# Altium integrated library Linear Technology Power Management Switching Regulator LT1074-LT8705.IntLib: 2252 symbols (part 144 of 148)
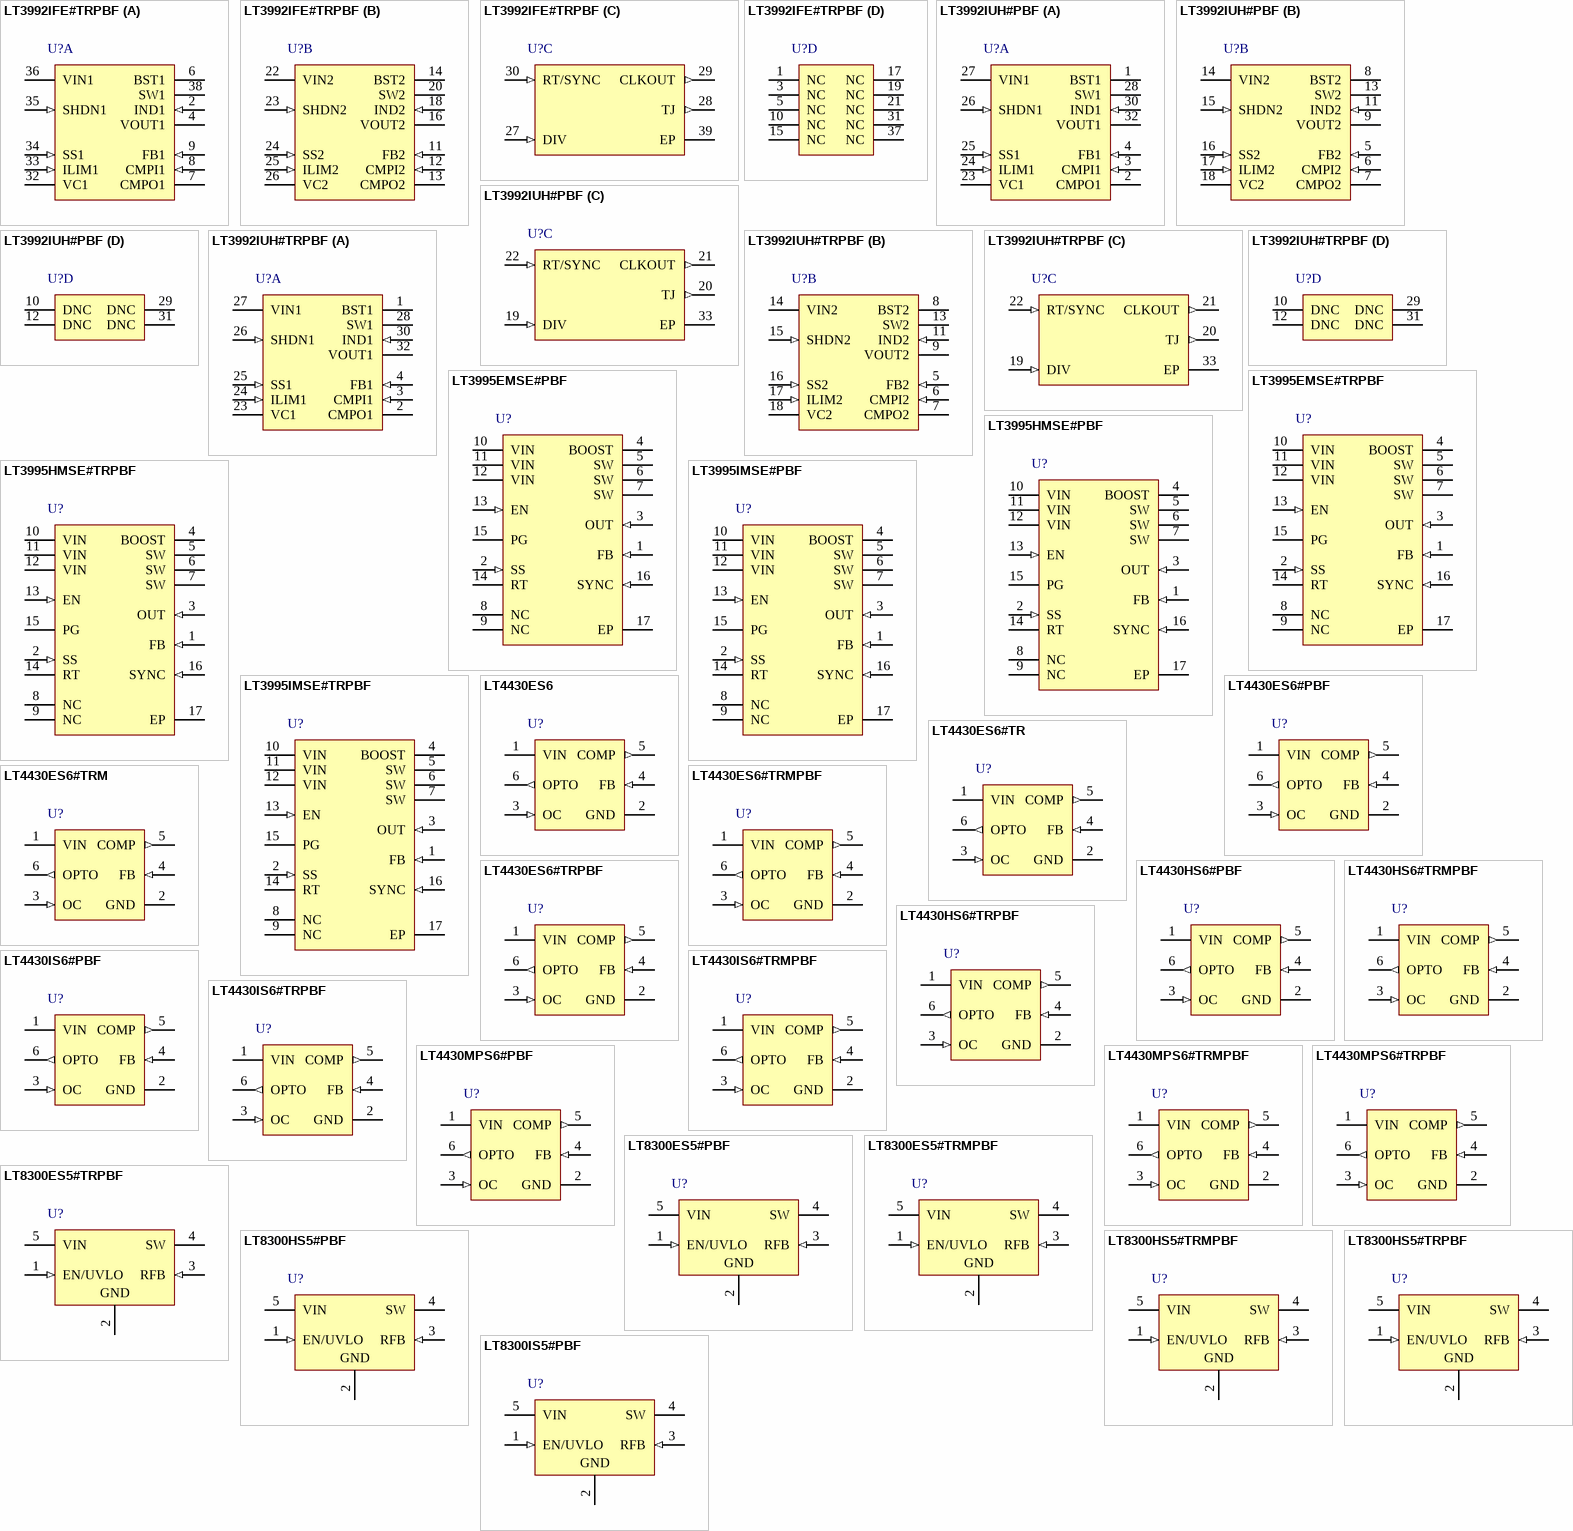
[diagram p214: symbols LT3992IFE#TRPBF to LT8300IS5#PBF]

## LT4430HS6#PBF
designator U?
Secondary-Side Optocoupler Driver, 6-pin SOT23 (S6-6), -40 to 150 degC, Pb-Free; Manufacturer: Linear Technology; PartNumber: LT4430HS6#PBF; Number of Outputs: 1; DatasheetVersion: Rev. B; PackageVersion: Jun-10; PackageReference: S6-6; PackageDescription: 6-Pin Plastic TSOT-23, Body 2.9 x 1.63 mm, Pitch 0.95 mm; RoHS: TRUE; Mounting Technology: Surface Mount; Code_JEDEC: MO-193; ComponentLink1Description: Manufacturer URL; ComponentLink1URL: http://www.linear.com/; ComponentLink2Description: Datasheet; ComponentLink2URL: http://cds.linear.com/docs/en/datasheet/4430fb.pdf; ComponentLink3Description: Package Specification; ComponentLink3URL: http://cds.linear.com/docs/en/packaging/SOT_6_05-08-1636.pdf
footprint LT-S6-6-TSOT-23_N (SOT23, 6-Leads, Body 2.9x1.75mm, Pitch 0.95mm, IPC Medium Density)
footprint LT-S6-6-TSOT-23_L (SOT23, 6-Leads, Body 2.9x1.75mm, Pitch 0.95mm, IPC High Density)
footprint LT-S6-6-TSOT-23_M (SOT23, 6-Leads, Body 2.9x1.75mm, Pitch 0.95mm, IPC Low Density)
pins: 1 VIN (power) "This is the input supply that powers all internal circuitry. The input supply range is 3V minimum to 20V maximum and the typical input quiescent current is 1.9mA. Connect a 1uF bypass capacitor directly from VIN to GND.", 2 GND (power) "Analog Ground Pin. It is also the negative sense terminal for the internal 0.6V reference. Connect the external feedback divider network that terminates to ground directly to this pin for best regulation and performance.", 3 OC (in) "Overshoot Control Pin. A typical 8.5uA current source and a capacitor placed from this pin to GND controls output voltage overshoot on start-up and recovery from short-circuit. The typical ramp time is (COC ?.6V)/8.5uA(See Datasheet)", 4 FB (in) "This is the inverting input of the error amplifier. The noninverting input is tied to the internal 0.6V reference. Input bias current for this pin is typically 75nA flowing out of the pin. This pin normally ties to a (See Datasheet)", 5 COMP (out) "This is the output of the error amplifier. The error amplifier is a true voltage-mode error amplifier and frequency compensation is performed around the amplifier. Typical LT4430 compensation schemes use series R-C in (See Datasheet)", 6 OPTO (out) "This is the output of the amplifier that drives the opto-coupler. The opto driver amplifier uses an inverting gain of six configuration to drive the opto-coupler referenced to ground. Driving the opto-coupler referenced to (See Datasheet)"

## LT4430HS6#TRMPBF
designator U?
Secondary-Side Optocoupler Driver, 6-pin SOT23 (S6-6), -40 to 150 degC, Pb-Free, Mini Tape and Reel; Manufacturer: Linear Technology; PartNumber: LT4430HS6#TRMPBF; Number of Outputs: 1; DatasheetVersion: Rev. B; PackageVersion: Jun-10; PackageReference: S6-6; PackageDescription: 6-Pin Plastic TSOT-23, Body 2.9 x 1.63 mm, Pitch 0.95 mm; Supplier 1: Digi-Key; Supplier Part Number 1: LT4430HS6#TRMPBF-ND; Packing: Mini Tape and Reel; RoHS: TRUE; Mounting Technology: Surface Mount; Code_JEDEC: MO-193; ComponentLink1Description: Manufacturer URL; ComponentLink1URL: http://www.linear.com/; ComponentLink2Description: Datasheet; ComponentLink2URL: http://cds.linear.com/docs/en/datasheet/4430fb.pdf; ComponentLink3Description: Package Specification; ComponentLink3URL: http://cds.linear.com/docs/en/packaging/SOT_6_05-08-1636.pdf
footprint LT-S6-6-TSOT-23_N (SOT23, 6-Leads, Body 2.9x1.75mm, Pitch 0.95mm, IPC Medium Density)
footprint LT-S6-6-TSOT-23_L (SOT23, 6-Leads, Body 2.9x1.75mm, Pitch 0.95mm, IPC High Density)
footprint LT-S6-6-TSOT-23_M (SOT23, 6-Leads, Body 2.9x1.75mm, Pitch 0.95mm, IPC Low Density)
pins: 1 VIN (power) "This is the input supply that powers all internal circuitry. The input supply range is 3V minimum to 20V maximum and the typical input quiescent current is 1.9mA. Connect a 1uF bypass capacitor directly from VIN to GND.", 2 GND (power) "Analog Ground Pin. It is also the negative sense terminal for the internal 0.6V reference. Connect the external feedback divider network that terminates to ground directly to this pin for best regulation and performance.", 3 OC (in) "Overshoot Control Pin. A typical 8.5uA current source and a capacitor placed from this pin to GND controls output voltage overshoot on start-up and recovery from short-circuit. The typical ramp time is (COC ?.6V)/8.5uA(See Datasheet)", 4 FB (in) "This is the inverting input of the error amplifier. The noninverting input is tied to the internal 0.6V reference. Input bias current for this pin is typically 75nA flowing out of the pin. This pin normally ties to a (See Datasheet)", 5 COMP (out) "This is the output of the error amplifier. The error amplifier is a true voltage-mode error amplifier and frequency compensation is performed around the amplifier. Typical LT4430 compensation schemes use series R-C in (See Datasheet)", 6 OPTO (out) "This is the output of the amplifier that drives the opto-coupler. The opto driver amplifier uses an inverting gain of six configuration to drive the opto-coupler referenced to ground. Driving the opto-coupler referenced to (See Datasheet)"

## LT4430HS6#TRPBF
designator U?
Secondary-Side Optocoupler Driver, 6-pin SOT23 (S6-6), -40 to 150 degC, Pb-Free, Tape and Reel; Manufacturer: Linear Technology; PartNumber: LT4430HS6#TRPBF; Number of Outputs: 1; DatasheetVersion: Rev. B; PackageVersion: Jun-10; PackageReference: S6-6; PackageDescription: 6-Pin Plastic TSOT-23, Body 2.9 x 1.63 mm, Pitch 0.95 mm; Supplier 1: Digi-Key; Supplier Part Number 1: LT4430HS6#TRPBF-ND; Packing: Tape and Reel; RoHS: TRUE; Mounting Technology: Surface Mount; Code_JEDEC: MO-193; ComponentLink1Description: Manufacturer URL; ComponentLink1URL: http://www.linear.com/; ComponentLink2Description: Datasheet; ComponentLink2URL: http://cds.linear.com/docs/en/datasheet/4430fb.pdf; ComponentLink3Description: Package Specification; ComponentLink3URL: http://cds.linear.com/docs/en/packaging/SOT_6_05-08-1636.pdf
footprint LT-S6-6-TSOT-23_N (SOT23, 6-Leads, Body 2.9x1.75mm, Pitch 0.95mm, IPC Medium Density)
footprint LT-S6-6-TSOT-23_L (SOT23, 6-Leads, Body 2.9x1.75mm, Pitch 0.95mm, IPC High Density)
footprint LT-S6-6-TSOT-23_M (SOT23, 6-Leads, Body 2.9x1.75mm, Pitch 0.95mm, IPC Low Density)
pins: 1 VIN (power) "This is the input supply that powers all internal circuitry. The input supply range is 3V minimum to 20V maximum and the typical input quiescent current is 1.9mA. Connect a 1uF bypass capacitor directly from VIN to GND.", 2 GND (power) "Analog Ground Pin. It is also the negative sense terminal for the internal 0.6V reference. Connect the external feedback divider network that terminates to ground directly to this pin for best regulation and performance.", 3 OC (in) "Overshoot Control Pin. A typical 8.5uA current source and a capacitor placed from this pin to GND controls output voltage overshoot on start-up and recovery from short-circuit. The typical ramp time is (COC ?.6V)/8.5uA(See Datasheet)", 4 FB (in) "This is the inverting input of the error amplifier. The noninverting input is tied to the internal 0.6V reference. Input bias current for this pin is typically 75nA flowing out of the pin. This pin normally ties to a (See Datasheet)", 5 COMP (out) "This is the output of the error amplifier. The error amplifier is a true voltage-mode error amplifier and frequency compensation is performed around the amplifier. Typical LT4430 compensation schemes use series R-C in (See Datasheet)", 6 OPTO (out) "This is the output of the amplifier that drives the opto-coupler. The opto driver amplifier uses an inverting gain of six configuration to drive the opto-coupler referenced to ground. Driving the opto-coupler referenced to (See Datasheet)"

## LT4430IS6#PBF
designator U?
Secondary-Side Optocoupler Driver, 6-pin SOT23 (S6-6), -40 to 125 degC, Pb-Free; Manufacturer: Linear Technology; PartNumber: LT4430IS6#PBF; Number of Outputs: 1; DatasheetVersion: Rev. B; PackageVersion: Jun-10; PackageReference: S6-6; PackageDescription: 6-Pin Plastic TSOT-23, Body 2.9 x 1.63 mm, Pitch 0.95 mm; Supplier 1: Newark; Supplier Part Number 1: 78T4112; RoHS: TRUE; Mounting Technology: Surface Mount; Code_JEDEC: MO-193; ComponentLink1Description: Manufacturer URL; ComponentLink1URL: http://www.linear.com/; ComponentLink2Description: Datasheet; ComponentLink2URL: http://cds.linear.com/docs/en/datasheet/4430fb.pdf; ComponentLink3Description: Package Specification; ComponentLink3URL: http://cds.linear.com/docs/en/packaging/SOT_6_05-08-1636.pdf
footprint LT-S6-6-TSOT-23_N (SOT23, 6-Leads, Body 2.9x1.75mm, Pitch 0.95mm, IPC Medium Density)
footprint LT-S6-6-TSOT-23_L (SOT23, 6-Leads, Body 2.9x1.75mm, Pitch 0.95mm, IPC High Density)
footprint LT-S6-6-TSOT-23_M (SOT23, 6-Leads, Body 2.9x1.75mm, Pitch 0.95mm, IPC Low Density)
pins: 1 VIN (power) "This is the input supply that powers all internal circuitry. The input supply range is 3V minimum to 20V maximum and the typical input quiescent current is 1.9mA. Connect a 1uF bypass capacitor directly from VIN to GND.", 2 GND (power) "Analog Ground Pin. It is also the negative sense terminal for the internal 0.6V reference. Connect the external feedback divider network that terminates to ground directly to this pin for best regulation and performance.", 3 OC (in) "Overshoot Control Pin. A typical 8.5uA current source and a capacitor placed from this pin to GND controls output voltage overshoot on start-up and recovery from short-circuit. The typical ramp time is (COC ?.6V)/8.5uA(See Datasheet)", 4 FB (in) "This is the inverting input of the error amplifier. The noninverting input is tied to the internal 0.6V reference. Input bias current for this pin is typically 75nA flowing out of the pin. This pin normally ties to a (See Datasheet)", 5 COMP (out) "This is the output of the error amplifier. The error amplifier is a true voltage-mode error amplifier and frequency compensation is performed around the amplifier. Typical LT4430 compensation schemes use series R-C in (See Datasheet)", 6 OPTO (out) "This is the output of the amplifier that drives the opto-coupler. The opto driver amplifier uses an inverting gain of six configuration to drive the opto-coupler referenced to ground. Driving the opto-coupler referenced to (See Datasheet)"

## LT4430IS6#TRMPBF
designator U?
Secondary-Side Optocoupler Driver, 6-pin SOT23 (S6-6), -40 to 125 degC, Pb-Free, Mini Tape and Reel; Manufacturer: Linear Technology; PartNumber: LT4430IS6#TRMPBF; Number of Outputs: 1; DatasheetVersion: Rev. B; PackageVersion: Jun-10; PackageReference: S6-6; PackageDescription: 6-Pin Plastic TSOT-23, Body 2.9 x 1.63 mm, Pitch 0.95 mm; Supplier 1: Digi-Key; Supplier Part Number 1: LT4430IS6#TRMPBF-ND; Packing: Mini Tape and Reel; RoHS: TRUE; Mounting Technology: Surface Mount; Code_JEDEC: MO-193; ComponentLink1Description: Manufacturer URL; ComponentLink1URL: http://www.linear.com/; ComponentLink2Description: Datasheet; ComponentLink2URL: http://cds.linear.com/docs/en/datasheet/4430fb.pdf; ComponentLink3Description: Package Specification; ComponentLink3URL: http://cds.linear.com/docs/en/packaging/SOT_6_05-08-1636.pdf
footprint LT-S6-6-TSOT-23_N (SOT23, 6-Leads, Body 2.9x1.75mm, Pitch 0.95mm, IPC Medium Density)
footprint LT-S6-6-TSOT-23_L (SOT23, 6-Leads, Body 2.9x1.75mm, Pitch 0.95mm, IPC High Density)
footprint LT-S6-6-TSOT-23_M (SOT23, 6-Leads, Body 2.9x1.75mm, Pitch 0.95mm, IPC Low Density)
pins: 1 VIN (power) "This is the input supply that powers all internal circuitry. The input supply range is 3V minimum to 20V maximum and the typical input quiescent current is 1.9mA. Connect a 1uF bypass capacitor directly from VIN to GND.", 2 GND (power) "Analog Ground Pin. It is also the negative sense terminal for the internal 0.6V reference. Connect the external feedback divider network that terminates to ground directly to this pin for best regulation and performance.", 3 OC (in) "Overshoot Control Pin. A typical 8.5uA current source and a capacitor placed from this pin to GND controls output voltage overshoot on start-up and recovery from short-circuit. The typical ramp time is (COC ?.6V)/8.5uA(See Datasheet)", 4 FB (in) "This is the inverting input of the error amplifier. The noninverting input is tied to the internal 0.6V reference. Input bias current for this pin is typically 75nA flowing out of the pin. This pin normally ties to a (See Datasheet)", 5 COMP (out) "This is the output of the error amplifier. The error amplifier is a true voltage-mode error amplifier and frequency compensation is performed around the amplifier. Typical LT4430 compensation schemes use series R-C in (See Datasheet)", 6 OPTO (out) "This is the output of the amplifier that drives the opto-coupler. The opto driver amplifier uses an inverting gain of six configuration to drive the opto-coupler referenced to ground. Driving the opto-coupler referenced to (See Datasheet)"

## LT4430IS6#TRPBF
designator U?
Secondary-Side Optocoupler Driver, 6-pin SOT23 (S6-6), -40 to 125 degC, Pb-Free, Tape and Reel; Manufacturer: Linear Technology; PartNumber: LT4430IS6#TRPBF; Number of Outputs: 1; DatasheetVersion: Rev. B; PackageVersion: Jun-10; PackageReference: S6-6; PackageDescription: 6-Pin Plastic TSOT-23, Body 2.9 x 1.63 mm, Pitch 0.95 mm; Supplier 1: Digi-Key; Supplier Part Number 1: LT4430IS6#TRPBF-ND; Packing: Tape and Reel; RoHS: TRUE; Mounting Technology: Surface Mount; Code_JEDEC: MO-193; ComponentLink1Description: Manufacturer URL; ComponentLink1URL: http://www.linear.com/; ComponentLink2Description: Datasheet; ComponentLink2URL: http://cds.linear.com/docs/en/datasheet/4430fb.pdf; ComponentLink3Description: Package Specification; ComponentLink3URL: http://cds.linear.com/docs/en/packaging/SOT_6_05-08-1636.pdf
footprint LT-S6-6-TSOT-23_N (SOT23, 6-Leads, Body 2.9x1.75mm, Pitch 0.95mm, IPC Medium Density)
footprint LT-S6-6-TSOT-23_L (SOT23, 6-Leads, Body 2.9x1.75mm, Pitch 0.95mm, IPC High Density)
footprint LT-S6-6-TSOT-23_M (SOT23, 6-Leads, Body 2.9x1.75mm, Pitch 0.95mm, IPC Low Density)
pins: 1 VIN (power) "This is the input supply that powers all internal circuitry. The input supply range is 3V minimum to 20V maximum and the typical input quiescent current is 1.9mA. Connect a 1uF bypass capacitor directly from VIN to GND.", 2 GND (power) "Analog Ground Pin. It is also the negative sense terminal for the internal 0.6V reference. Connect the external feedback divider network that terminates to ground directly to this pin for best regulation and performance.", 3 OC (in) "Overshoot Control Pin. A typical 8.5uA current source and a capacitor placed from this pin to GND controls output voltage overshoot on start-up and recovery from short-circuit. The typical ramp time is (COC ?.6V)/8.5uA(See Datasheet)", 4 FB (in) "This is the inverting input of the error amplifier. The noninverting input is tied to the internal 0.6V reference. Input bias current for this pin is typically 75nA flowing out of the pin. This pin normally ties to a (See Datasheet)", 5 COMP (out) "This is the output of the error amplifier. The error amplifier is a true voltage-mode error amplifier and frequency compensation is performed around the amplifier. Typical LT4430 compensation schemes use series R-C in (See Datasheet)", 6 OPTO (out) "This is the output of the amplifier that drives the opto-coupler. The opto driver amplifier uses an inverting gain of six configuration to drive the opto-coupler referenced to ground. Driving the opto-coupler referenced to (See Datasheet)"

## LT4430MPS6#PBF
designator U?
Secondary-Side Optocoupler Driver, 6-pin SOT23 (S6-6), -55 to 150 degC, Pb-Free; Manufacturer: Linear Technology; PartNumber: LT4430MPS6#PBF; Number of Outputs: 1; DatasheetVersion: Rev. B; PackageVersion: Jun-10; PackageReference: S6-6; PackageDescription: 6-Pin Plastic TSOT-23, Body 2.9 x 1.63 mm, Pitch 0.95 mm; RoHS: TRUE; Mounting Technology: Surface Mount; Code_JEDEC: MO-193; ComponentLink1Description: Manufacturer URL; ComponentLink1URL: http://www.linear.com/; ComponentLink2Description: Datasheet; ComponentLink2URL: http://cds.linear.com/docs/en/datasheet/4430fb.pdf; ComponentLink3Description: Package Specification; ComponentLink3URL: http://cds.linear.com/docs/en/packaging/SOT_6_05-08-1636.pdf
footprint LT-S6-6-TSOT-23_N (SOT23, 6-Leads, Body 2.9x1.75mm, Pitch 0.95mm, IPC Medium Density)
footprint LT-S6-6-TSOT-23_L (SOT23, 6-Leads, Body 2.9x1.75mm, Pitch 0.95mm, IPC High Density)
footprint LT-S6-6-TSOT-23_M (SOT23, 6-Leads, Body 2.9x1.75mm, Pitch 0.95mm, IPC Low Density)
pins: 1 VIN (power) "This is the input supply that powers all internal circuitry. The input supply range is 3V minimum to 20V maximum and the typical input quiescent current is 1.9mA. Connect a 1uF bypass capacitor directly from VIN to GND.", 2 GND (power) "Analog Ground Pin. It is also the negative sense terminal for the internal 0.6V reference. Connect the external feedback divider network that terminates to ground directly to this pin for best regulation and performance.", 3 OC (in) "Overshoot Control Pin. A typical 8.5uA current source and a capacitor placed from this pin to GND controls output voltage overshoot on start-up and recovery from short-circuit. The typical ramp time is (COC ?.6V)/8.5uA(See Datasheet)", 4 FB (in) "This is the inverting input of the error amplifier. The noninverting input is tied to the internal 0.6V reference. Input bias current for this pin is typically 75nA flowing out of the pin. This pin normally ties to a (See Datasheet)", 5 COMP (out) "This is the output of the error amplifier. The error amplifier is a true voltage-mode error amplifier and frequency compensation is performed around the amplifier. Typical LT4430 compensation schemes use series R-C in (See Datasheet)", 6 OPTO (out) "This is the output of the amplifier that drives the opto-coupler. The opto driver amplifier uses an inverting gain of six configuration to drive the opto-coupler referenced to ground. Driving the opto-coupler referenced to (See Datasheet)"

## LT4430MPS6#TRMPBF
designator U?
Secondary-Side Optocoupler Driver, 6-pin SOT23 (S6-6), -55 to 150 degC, Pb-Free, Mini Tape and Reel; Manufacturer: Linear Technology; PartNumber: LT4430MPS6#TRMPBF; Number of Outputs: 1; DatasheetVersion: Rev. B; PackageVersion: Jun-10; PackageReference: S6-6; PackageDescription: 6-Pin Plastic TSOT-23, Body 2.9 x 1.63 mm, Pitch 0.95 mm; Supplier 1: Digi-Key; Supplier Part Number 1: LT4430MPS6#TRMPBF-ND; Packing: Mini Tape and Reel; RoHS: TRUE; Mounting Technology: Surface Mount; Code_JEDEC: MO-193; ComponentLink1Description: Manufacturer URL; ComponentLink1URL: http://www.linear.com/; ComponentLink2Description: Datasheet; ComponentLink2URL: http://cds.linear.com/docs/en/datasheet/4430fb.pdf; ComponentLink3Description: Package Specification; ComponentLink3URL: http://cds.linear.com/docs/en/packaging/SOT_6_05-08-1636.pdf
footprint LT-S6-6-TSOT-23_N (SOT23, 6-Leads, Body 2.9x1.75mm, Pitch 0.95mm, IPC Medium Density)
footprint LT-S6-6-TSOT-23_L (SOT23, 6-Leads, Body 2.9x1.75mm, Pitch 0.95mm, IPC High Density)
footprint LT-S6-6-TSOT-23_M (SOT23, 6-Leads, Body 2.9x1.75mm, Pitch 0.95mm, IPC Low Density)
pins: 1 VIN (power) "This is the input supply that powers all internal circuitry. The input supply range is 3V minimum to 20V maximum and the typical input quiescent current is 1.9mA. Connect a 1uF bypass capacitor directly from VIN to GND.", 2 GND (power) "Analog Ground Pin. It is also the negative sense terminal for the internal 0.6V reference. Connect the external feedback divider network that terminates to ground directly to this pin for best regulation and performance.", 3 OC (in) "Overshoot Control Pin. A typical 8.5uA current source and a capacitor placed from this pin to GND controls output voltage overshoot on start-up and recovery from short-circuit. The typical ramp time is (COC ?.6V)/8.5uA(See Datasheet)", 4 FB (in) "This is the inverting input of the error amplifier. The noninverting input is tied to the internal 0.6V reference. Input bias current for this pin is typically 75nA flowing out of the pin. This pin normally ties to a (See Datasheet)", 5 COMP (out) "This is the output of the error amplifier. The error amplifier is a true voltage-mode error amplifier and frequency compensation is performed around the amplifier. Typical LT4430 compensation schemes use series R-C in (See Datasheet)", 6 OPTO (out) "This is the output of the amplifier that drives the opto-coupler. The opto driver amplifier uses an inverting gain of six configuration to drive the opto-coupler referenced to ground. Driving the opto-coupler referenced to (See Datasheet)"

## LT4430MPS6#TRPBF
designator U?
Secondary-Side Optocoupler Driver, 6-pin SOT23 (S6-6), -55 to 150 degC, Pb-Free, Tape and Reel; Manufacturer: Linear Technology; PartNumber: LT4430MPS6#TRPBF; Number of Outputs: 1; DatasheetVersion: Rev. B; PackageVersion: Jun-10; PackageReference: S6-6; PackageDescription: 6-Pin Plastic TSOT-23, Body 2.9 x 1.63 mm, Pitch 0.95 mm; Supplier 1: Digi-Key; Supplier Part Number 1: LT4430MPS6#TRPBF-ND; Supplier 2: Newark; Supplier Part Number 2: 59T5850; Packing: Tape and Reel; RoHS: TRUE; Mounting Technology: Surface Mount; Code_JEDEC: MO-193; ComponentLink1Description: Manufacturer URL; ComponentLink1URL: http://www.linear.com/; ComponentLink2Description: Datasheet; ComponentLink2URL: http://cds.linear.com/docs/en/datasheet/4430fb.pdf; ComponentLink3Description: Package Specification; ComponentLink3URL: http://cds.linear.com/docs/en/packaging/SOT_6_05-08-1636.pdf
footprint LT-S6-6-TSOT-23_N (SOT23, 6-Leads, Body 2.9x1.75mm, Pitch 0.95mm, IPC Medium Density)
footprint LT-S6-6-TSOT-23_L (SOT23, 6-Leads, Body 2.9x1.75mm, Pitch 0.95mm, IPC High Density)
footprint LT-S6-6-TSOT-23_M (SOT23, 6-Leads, Body 2.9x1.75mm, Pitch 0.95mm, IPC Low Density)
pins: 1 VIN (power) "This is the input supply that powers all internal circuitry. The input supply range is 3V minimum to 20V maximum and the typical input quiescent current is 1.9mA. Connect a 1uF bypass capacitor directly from VIN to GND.", 2 GND (power) "Analog Ground Pin. It is also the negative sense terminal for the internal 0.6V reference. Connect the external feedback divider network that terminates to ground directly to this pin for best regulation and performance.", 3 OC (in) "Overshoot Control Pin. A typical 8.5uA current source and a capacitor placed from this pin to GND controls output voltage overshoot on start-up and recovery from short-circuit. The typical ramp time is (COC ?.6V)/8.5uA(See Datasheet)", 4 FB (in) "This is the inverting input of the error amplifier. The noninverting input is tied to the internal 0.6V reference. Input bias current for this pin is typically 75nA flowing out of the pin. This pin normally ties to a (See Datasheet)", 5 COMP (out) "This is the output of the error amplifier. The error amplifier is a true voltage-mode error amplifier and frequency compensation is performed around the amplifier. Typical LT4430 compensation schemes use series R-C in (See Datasheet)", 6 OPTO (out) "This is the output of the amplifier that drives the opto-coupler. The opto driver amplifier uses an inverting gain of six configuration to drive the opto-coupler referenced to ground. Driving the opto-coupler referenced to (See Datasheet)"

## LT8300ES5#PBF
designator U?
Micropower Isolated Flyback Converter with 150 V / 260 mA Switch, 5-pin SOT23 (S5-5), -40 to 125 degC, Pb-Free; Manufacturer: Linear Technology; PartNumber: LT8300ES5#PBF; Number of Outputs: 1; PackageVersion: Jun-10; PackageReference: S5-5; PackageDescription: 5-Pin Plastic TSOT-23, Body 1.63 x 2.90 mm, Pitch 0.95 mm; RoHS: TRUE; Mounting Technology: Surface Mount; Code_JEDEC: MO-193; ComponentLink1Description: Manufacturer URL; ComponentLink1URL: http://www.linear.com/; ComponentLink2Description: Datasheet; ComponentLink2URL: http://cds.linear.com/docs/en/datasheet/8300f.pdf; ComponentLink3Description: Package Specification; ComponentLink3URL: http://cds.linear.com/docs/en/packaging/SOT_5_05-08-1635.pdf
footprint LT-S5-5-TSOT-23_N (SOT23, 5-Leads, Body 2.90x1.63mm, Pitch 0.95mm, IPC Medium Density)
footprint LT-S5-5-TSOT-23_L (SOT23, 5-Leads, Body 2.90x1.63mm, Pitch 0.95mm, IPC High Density)
footprint LT-S5-5-TSOT-23_M (SOT23, 5-Leads, Body 2.90x1.63mm, Pitch 0.95mm, IPC Low Density)
pins: 1 EN/UVLO (in) "Enable/Undervoltage Lockout. The EN/UVLO pin is used to enable the LT8300. Pull the pin below 0.3V to shut down the LT8300. This pin has an accurate 1.223V threshold and can be used to program a VIN undervoltage lockout (See Datasheet)", 2 GND (power) "Ground. Tie this pin directly to local ground plane.", 3 RFB (in) "Input Pin for External Feedback Resistor. Connect a resistor from this pin to the transformer primary SW pin. The ratio of the RFB resistor to the internal trimmed 12.23k resistor, times the internal bandgap reference, (See Datasheet)", 4 SW (power) "Drain of the 150V Internal DMOS Power Switch. Minimize trace area at this pin to reduce EMI and voltage spikes.", 5 VIN (power) "Input Supply. The VIN pin supplies current to internal circuitry and serves as a reference voltage for the feedback circuitry connected to the RFB pin. Locally bypass this pin to ground with a capacitor."

## LT8300ES5#TRMPBF
designator U?
Micropower Isolated Flyback Converter with 150 V / 260 mA Switch, 5-pin SOT23 (S5-5), -40 to 125 degC, Pb-Free, Mini Tape and Reel; Manufacturer: Linear Technology; PartNumber: LT8300ES5#TRMPBF; Number of Outputs: 1; PackageVersion: Jun-10; PackageReference: S5-5; PackageDescription: 5-Pin Plastic TSOT-23, Body 1.63 x 2.90 mm, Pitch 0.95 mm; Supplier 1: Digi-Key; Supplier Part Number 1: LT8300ES5#TRMPBFTR-ND; Supplier 2: Digi-Key; Supplier Part Number 2: LT8300ES5#TRMPBFCT-ND; Supplier 3: Digi-Key; Supplier Part Number 3: LT8300ES5#TRMPBFDKR-ND; Supplier 4: Newark; Supplier Part Number 4: 44W6863; Packing: Mini Tape and Reel; RoHS: TRUE; Mounting Technology: Surface Mount; Code_JEDEC: MO-193; ComponentLink1Description: Manufacturer URL; ComponentLink1URL: http://www.linear.com/; ComponentLink2Description: Datasheet; ComponentLink2URL: http://cds.linear.com/docs/en/datasheet/8300f.pdf; ComponentLink3Description: Package Specification; ComponentLink3URL: http://cds.linear.com/docs/en/packaging/SOT_5_05-08-1635.pdf
footprint LT-S5-5-TSOT-23_N (SOT23, 5-Leads, Body 2.90x1.63mm, Pitch 0.95mm, IPC Medium Density)
footprint LT-S5-5-TSOT-23_L (SOT23, 5-Leads, Body 2.90x1.63mm, Pitch 0.95mm, IPC High Density)
footprint LT-S5-5-TSOT-23_M (SOT23, 5-Leads, Body 2.90x1.63mm, Pitch 0.95mm, IPC Low Density)
pins: 1 EN/UVLO (in) "Enable/Undervoltage Lockout. The EN/UVLO pin is used to enable the LT8300. Pull the pin below 0.3V to shut down the LT8300. This pin has an accurate 1.223V threshold and can be used to program a VIN undervoltage lockout (See Datasheet)", 2 GND (power) "Ground. Tie this pin directly to local ground plane.", 3 RFB (in) "Input Pin for External Feedback Resistor. Connect a resistor from this pin to the transformer primary SW pin. The ratio of the RFB resistor to the internal trimmed 12.23k resistor, times the internal bandgap reference, (See Datasheet)", 4 SW (power) "Drain of the 150V Internal DMOS Power Switch. Minimize trace area at this pin to reduce EMI and voltage spikes.", 5 VIN (power) "Input Supply. The VIN pin supplies current to internal circuitry and serves as a reference voltage for the feedback circuitry connected to the RFB pin. Locally bypass this pin to ground with a capacitor."

## LT8300ES5#TRPBF
designator U?
Micropower Isolated Flyback Converter with 150 V / 260 mA Switch, 5-pin SOT23 (S5-5), -40 to 125 degC, Pb-Free, Tape and Reel; Manufacturer: Linear Technology; PartNumber: LT8300ES5#TRPBF; Number of Outputs: 1; PackageVersion: Jun-10; PackageReference: S5-5; PackageDescription: 5-Pin Plastic TSOT-23, Body 1.63 x 2.90 mm, Pitch 0.95 mm; Supplier 1: Digi-Key; Supplier Part Number 1: LT8300ES5#TRPBF-ND; Supplier 2: Newark; Supplier Part Number 2: 44W6864; Packing: Tape and Reel; RoHS: TRUE; Mounting Technology: Surface Mount; Code_JEDEC: MO-193; ComponentLink1Description: Manufacturer URL; ComponentLink1URL: http://www.linear.com/; ComponentLink2Description: Datasheet; ComponentLink2URL: http://cds.linear.com/docs/en/datasheet/8300f.pdf; ComponentLink3Description: Package Specification; ComponentLink3URL: http://cds.linear.com/docs/en/packaging/SOT_5_05-08-1635.pdf
footprint LT-S5-5-TSOT-23_N (SOT23, 5-Leads, Body 2.90x1.63mm, Pitch 0.95mm, IPC Medium Density)
footprint LT-S5-5-TSOT-23_L (SOT23, 5-Leads, Body 2.90x1.63mm, Pitch 0.95mm, IPC High Density)
footprint LT-S5-5-TSOT-23_M (SOT23, 5-Leads, Body 2.90x1.63mm, Pitch 0.95mm, IPC Low Density)
pins: 1 EN/UVLO (in) "Enable/Undervoltage Lockout. The EN/UVLO pin is used to enable the LT8300. Pull the pin below 0.3V to shut down the LT8300. This pin has an accurate 1.223V threshold and can be used to program a VIN undervoltage lockout (See Datasheet)", 2 GND (power) "Ground. Tie this pin directly to local ground plane.", 3 RFB (in) "Input Pin for External Feedback Resistor. Connect a resistor from this pin to the transformer primary SW pin. The ratio of the RFB resistor to the internal trimmed 12.23k resistor, times the internal bandgap reference, (See Datasheet)", 4 SW (power) "Drain of the 150V Internal DMOS Power Switch. Minimize trace area at this pin to reduce EMI and voltage spikes.", 5 VIN (power) "Input Supply. The VIN pin supplies current to internal circuitry and serves as a reference voltage for the feedback circuitry connected to the RFB pin. Locally bypass this pin to ground with a capacitor."

## LT8300HS5#PBF
designator U?
Micropower Isolated Flyback Converter with 150 V / 260 mA Switch, 5-pin SOT23 (S5-5), -40 to 150 degC, Pb-Free; Manufacturer: Linear Technology; PartNumber: LT8300HS5#PBF; Number of Outputs: 1; PackageVersion: Jun-10; PackageReference: S5-5; PackageDescription: 5-Pin Plastic TSOT-23, Body 1.63 x 2.90 mm, Pitch 0.95 mm; RoHS: TRUE; Mounting Technology: Surface Mount; Code_JEDEC: MO-193; ComponentLink1Description: Manufacturer URL; ComponentLink1URL: http://www.linear.com/; ComponentLink2Description: Datasheet; ComponentLink2URL: http://cds.linear.com/docs/en/datasheet/8300f.pdf; ComponentLink3Description: Package Specification; ComponentLink3URL: http://cds.linear.com/docs/en/packaging/SOT_5_05-08-1635.pdf
footprint LT-S5-5-TSOT-23_N (SOT23, 5-Leads, Body 2.90x1.63mm, Pitch 0.95mm, IPC Medium Density)
footprint LT-S5-5-TSOT-23_L (SOT23, 5-Leads, Body 2.90x1.63mm, Pitch 0.95mm, IPC High Density)
footprint LT-S5-5-TSOT-23_M (SOT23, 5-Leads, Body 2.90x1.63mm, Pitch 0.95mm, IPC Low Density)
pins: 1 EN/UVLO (in) "Enable/Undervoltage Lockout. The EN/UVLO pin is used to enable the LT8300. Pull the pin below 0.3V to shut down the LT8300. This pin has an accurate 1.223V threshold and can be used to program a VIN undervoltage lockout (See Datasheet)", 2 GND (power) "Ground. Tie this pin directly to local ground plane.", 3 RFB (in) "Input Pin for External Feedback Resistor. Connect a resistor from this pin to the transformer primary SW pin. The ratio of the RFB resistor to the internal trimmed 12.23k resistor, times the internal bandgap reference, (See Datasheet)", 4 SW (power) "Drain of the 150V Internal DMOS Power Switch. Minimize trace area at this pin to reduce EMI and voltage spikes.", 5 VIN (power) "Input Supply. The VIN pin supplies current to internal circuitry and serves as a reference voltage for the feedback circuitry connected to the RFB pin. Locally bypass this pin to ground with a capacitor."

## LT8300HS5#TRMPBF
designator U?
Micropower Isolated Flyback Converter with 150 V / 260 mA Switch, 5-pin SOT23 (S5-5), -40 to 150 degC, Pb-Free, Mini Tape and Reel; Manufacturer: Linear Technology; PartNumber: LT8300HS5#TRMPBF; Number of Outputs: 1; PackageVersion: Jun-10; PackageReference: S5-5; PackageDescription: 5-Pin Plastic TSOT-23, Body 1.63 x 2.90 mm, Pitch 0.95 mm; Supplier 1: Digi-Key; Supplier Part Number 1: LT8300HS5#TRMPBFTR-ND; Supplier 2: Digi-Key; Supplier Part Number 2: LT8300HS5#TRMPBFCT-ND; Supplier 3: Digi-Key; Supplier Part Number 3: LT8300HS5#TRMPBFDKR-ND; Supplier 4: Newark; Supplier Part Number 4: 44W6865; Packing: Mini Tape and Reel; RoHS: TRUE; Mounting Technology: Surface Mount; Code_JEDEC: MO-193; ComponentLink1Description: Manufacturer URL; ComponentLink1URL: http://www.linear.com/; ComponentLink2Description: Datasheet; ComponentLink2URL: http://cds.linear.com/docs/en/datasheet/8300f.pdf; ComponentLink3Description: Package Specification; ComponentLink3URL: http://cds.linear.com/docs/en/packaging/SOT_5_05-08-1635.pdf
footprint LT-S5-5-TSOT-23_N (SOT23, 5-Leads, Body 2.90x1.63mm, Pitch 0.95mm, IPC Medium Density)
footprint LT-S5-5-TSOT-23_L (SOT23, 5-Leads, Body 2.90x1.63mm, Pitch 0.95mm, IPC High Density)
footprint LT-S5-5-TSOT-23_M (SOT23, 5-Leads, Body 2.90x1.63mm, Pitch 0.95mm, IPC Low Density)
pins: 1 EN/UVLO (in) "Enable/Undervoltage Lockout. The EN/UVLO pin is used to enable the LT8300. Pull the pin below 0.3V to shut down the LT8300. This pin has an accurate 1.223V threshold and can be used to program a VIN undervoltage lockout (See Datasheet)", 2 GND (power) "Ground. Tie this pin directly to local ground plane.", 3 RFB (in) "Input Pin for External Feedback Resistor. Connect a resistor from this pin to the transformer primary SW pin. The ratio of the RFB resistor to the internal trimmed 12.23k resistor, times the internal bandgap reference, (See Datasheet)", 4 SW (power) "Drain of the 150V Internal DMOS Power Switch. Minimize trace area at this pin to reduce EMI and voltage spikes.", 5 VIN (power) "Input Supply. The VIN pin supplies current to internal circuitry and serves as a reference voltage for the feedback circuitry connected to the RFB pin. Locally bypass this pin to ground with a capacitor."

## LT8300HS5#TRPBF
designator U?
Micropower Isolated Flyback Converter with 150 V / 260 mA Switch, 5-pin SOT23 (S5-5), -40 to 150 degC, Pb-Free, Tape and Reel; Manufacturer: Linear Technology; PartNumber: LT8300HS5#TRPBF; Number of Outputs: 1; PackageVersion: Jun-10; PackageReference: S5-5; PackageDescription: 5-Pin Plastic TSOT-23, Body 1.63 x 2.90 mm, Pitch 0.95 mm; Supplier 1: Digi-Key; Supplier Part Number 1: LT8300HS5#TRPBF-ND; Supplier 2: Newark; Supplier Part Number 2: 44W6866; Packing: Tape and Reel; RoHS: TRUE; Mounting Technology: Surface Mount; Code_JEDEC: MO-193; ComponentLink1Description: Manufacturer URL; ComponentLink1URL: http://www.linear.com/; ComponentLink2Description: Datasheet; ComponentLink2URL: http://cds.linear.com/docs/en/datasheet/8300f.pdf; ComponentLink3Description: Package Specification; ComponentLink3URL: http://cds.linear.com/docs/en/packaging/SOT_5_05-08-1635.pdf
footprint LT-S5-5-TSOT-23_N (SOT23, 5-Leads, Body 2.90x1.63mm, Pitch 0.95mm, IPC Medium Density)
footprint LT-S5-5-TSOT-23_L (SOT23, 5-Leads, Body 2.90x1.63mm, Pitch 0.95mm, IPC High Density)
footprint LT-S5-5-TSOT-23_M (SOT23, 5-Leads, Body 2.90x1.63mm, Pitch 0.95mm, IPC Low Density)
pins: 1 EN/UVLO (in) "Enable/Undervoltage Lockout. The EN/UVLO pin is used to enable the LT8300. Pull the pin below 0.3V to shut down the LT8300. This pin has an accurate 1.223V threshold and can be used to program a VIN undervoltage lockout (See Datasheet)", 2 GND (power) "Ground. Tie this pin directly to local ground plane.", 3 RFB (in) "Input Pin for External Feedback Resistor. Connect a resistor from this pin to the transformer primary SW pin. The ratio of the RFB resistor to the internal trimmed 12.23k resistor, times the internal bandgap reference, (See Datasheet)", 4 SW (power) "Drain of the 150V Internal DMOS Power Switch. Minimize trace area at this pin to reduce EMI and voltage spikes.", 5 VIN (power) "Input Supply. The VIN pin supplies current to internal circuitry and serves as a reference voltage for the feedback circuitry connected to the RFB pin. Locally bypass this pin to ground with a capacitor."

## LT8300IS5#PBF
designator U?
Micropower Isolated Flyback Converter with 150 V / 260 mA Switch, 5-pin SOT23 (S5-5), -40 to 125 degC, Pb-Free; Manufacturer: Linear Technology; PartNumber: LT8300IS5#PBF; Number of Outputs: 1; PackageVersion: Jun-10; PackageReference: S5-5; PackageDescription: 5-Pin Plastic TSOT-23, Body 1.63 x 2.90 mm, Pitch 0.95 mm; RoHS: TRUE; Mounting Technology: Surface Mount; Code_JEDEC: MO-193; ComponentLink1Description: Manufacturer URL; ComponentLink1URL: http://www.linear.com/; ComponentLink2Description: Datasheet; ComponentLink2URL: http://cds.linear.com/docs/en/datasheet/8300f.pdf; ComponentLink3Description: Package Specification; ComponentLink3URL: http://cds.linear.com/docs/en/packaging/SOT_5_05-08-1635.pdf
footprint LT-S5-5-TSOT-23_N (SOT23, 5-Leads, Body 2.90x1.63mm, Pitch 0.95mm, IPC Medium Density)
footprint LT-S5-5-TSOT-23_L (SOT23, 5-Leads, Body 2.90x1.63mm, Pitch 0.95mm, IPC High Density)
footprint LT-S5-5-TSOT-23_M (SOT23, 5-Leads, Body 2.90x1.63mm, Pitch 0.95mm, IPC Low Density)
pins: 1 EN/UVLO (in) "Enable/Undervoltage Lockout. The EN/UVLO pin is used to enable the LT8300. Pull the pin below 0.3V to shut down the LT8300. This pin has an accurate 1.223V threshold and can be used to program a VIN undervoltage lockout (See Datasheet)", 2 GND (power) "Ground. Tie this pin directly to local ground plane.", 3 RFB (in) "Input Pin for External Feedback Resistor. Connect a resistor from this pin to the transformer primary SW pin. The ratio of the RFB resistor to the internal trimmed 12.23k resistor, times the internal bandgap reference, (See Datasheet)", 4 SW (power) "Drain of the 150V Internal DMOS Power Switch. Minimize trace area at this pin to reduce EMI and voltage spikes.", 5 VIN (power) "Input Supply. The VIN pin supplies current to internal circuitry and serves as a reference voltage for the feedback circuitry connected to the RFB pin. Locally bypass this pin to ground with a capacitor."

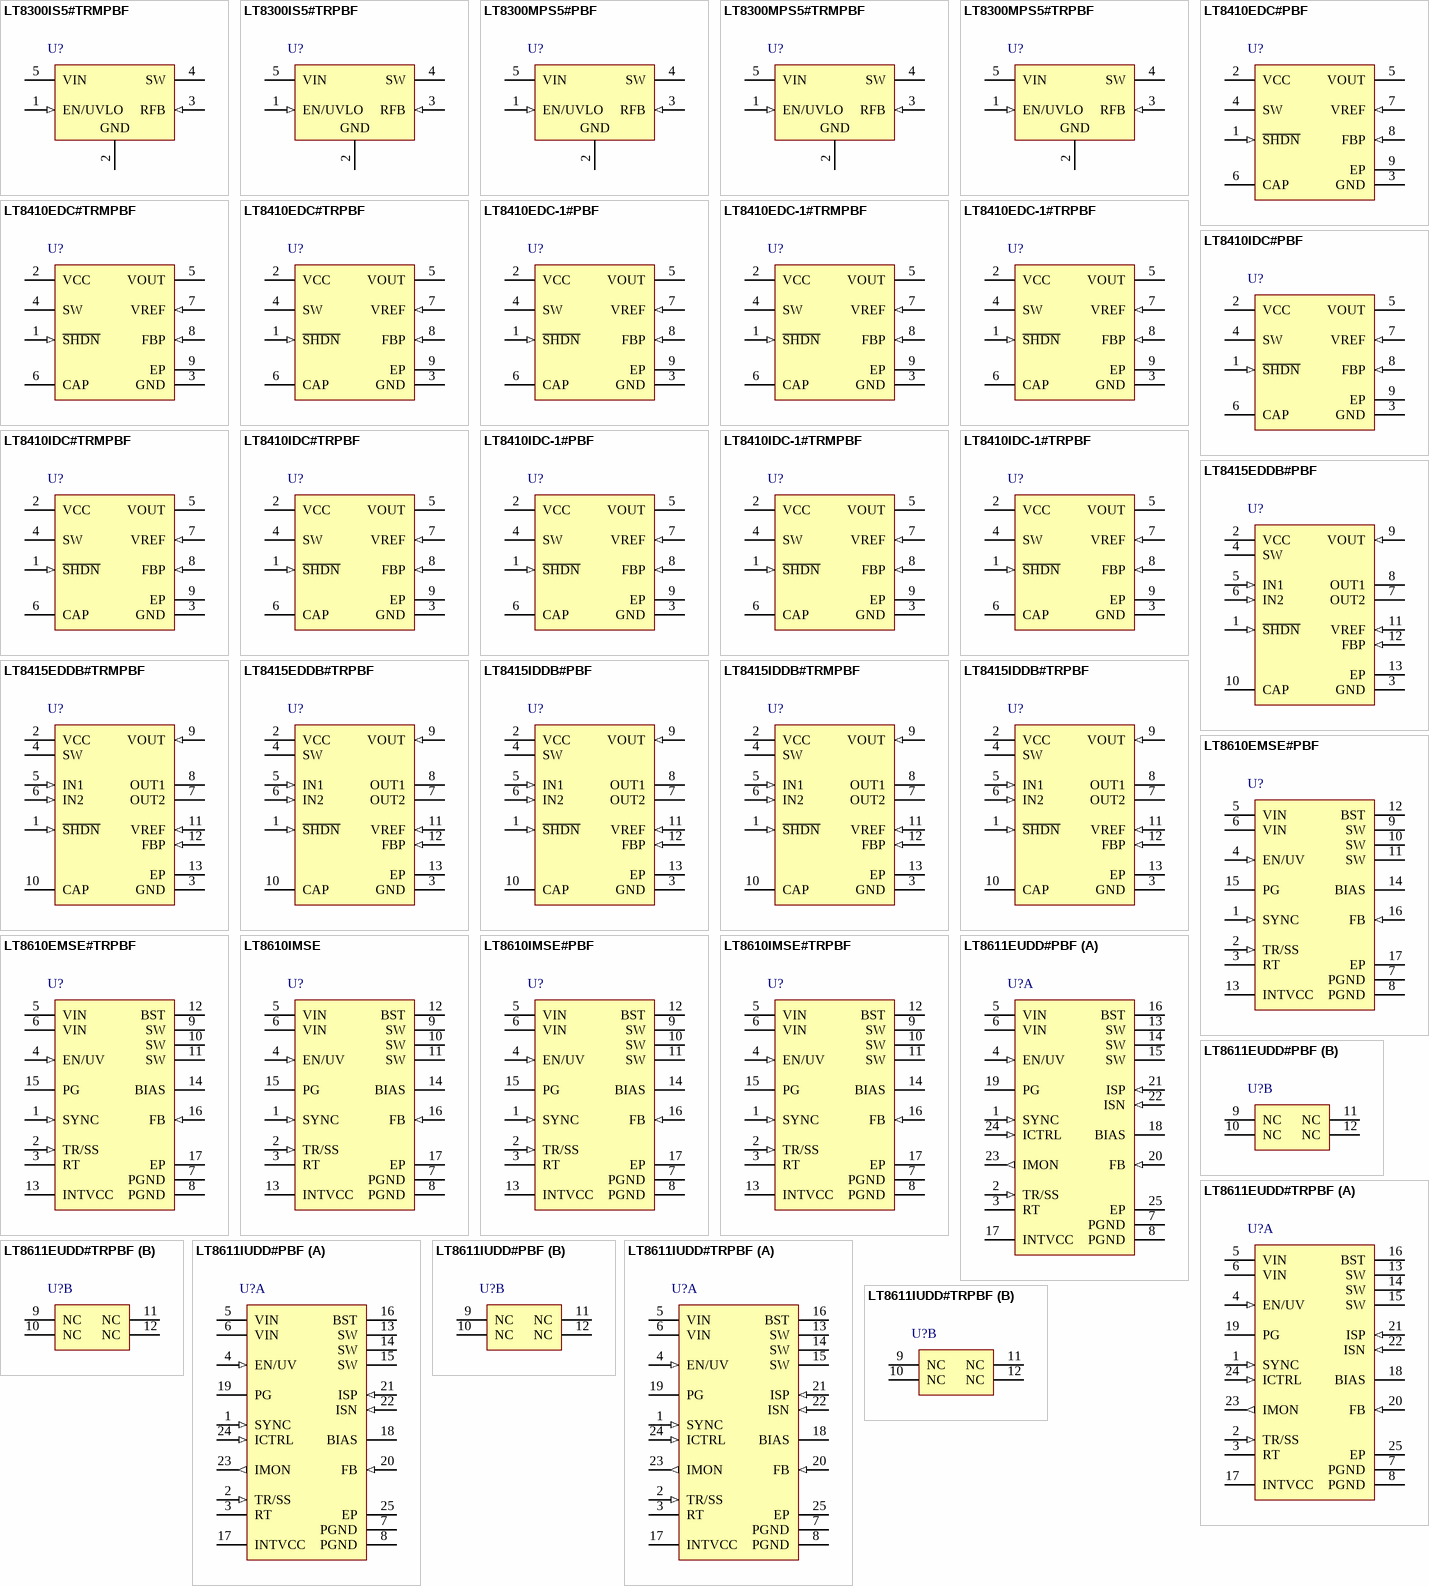
[diagram p70: symbols LT8300IS5#TRMPBF to LT8611IUDD#TRPBF]

## LT8300IS5#TRMPBF
designator U?
Micropower Isolated Flyback Converter with 150 V / 260 mA Switch, 5-pin SOT23 (S5-5), -40 to 125 degC, Pb-Free, Mini Tape and Reel; Manufacturer: Linear Technology; PartNumber: LT8300IS5#TRMPBF; Number of Outputs: 1; PackageVersion: Jun-10; PackageReference: S5-5; PackageDescription: 5-Pin Plastic TSOT-23, Body 1.63 x 2.90 mm, Pitch 0.95 mm; Supplier 1: Digi-Key; Supplier Part Number 1: LT8300IS5#TRMPBFTR-ND; Supplier 2: Digi-Key; Supplier Part Number 2: LT8300IS5#TRMPBFCT-ND; Supplier 3: Digi-Key; Supplier Part Number 3: LT8300IS5#TRMPBFDKR-ND; Supplier 4: Newark; Supplier Part Number 4: 44W6867; Packing: Mini Tape and Reel; RoHS: TRUE; Mounting Technology: Surface Mount; Code_JEDEC: MO-193; ComponentLink1Description: Manufacturer URL; ComponentLink1URL: http://www.linear.com/; ComponentLink2Description: Datasheet; ComponentLink2URL: http://cds.linear.com/docs/en/datasheet/8300f.pdf; ComponentLink3Description: Package Specification; ComponentLink3URL: http://cds.linear.com/docs/en/packaging/SOT_5_05-08-1635.pdf
footprint LT-S5-5-TSOT-23_N (SOT23, 5-Leads, Body 2.90x1.63mm, Pitch 0.95mm, IPC Medium Density)
footprint LT-S5-5-TSOT-23_L (SOT23, 5-Leads, Body 2.90x1.63mm, Pitch 0.95mm, IPC High Density)
footprint LT-S5-5-TSOT-23_M (SOT23, 5-Leads, Body 2.90x1.63mm, Pitch 0.95mm, IPC Low Density)
pins: 1 EN/UVLO (in) "Enable/Undervoltage Lockout. The EN/UVLO pin is used to enable the LT8300. Pull the pin below 0.3V to shut down the LT8300. This pin has an accurate 1.223V threshold and can be used to program a VIN undervoltage lockout (See Datasheet)", 2 GND (power) "Ground. Tie this pin directly to local ground plane.", 3 RFB (in) "Input Pin for External Feedback Resistor. Connect a resistor from this pin to the transformer primary SW pin. The ratio of the RFB resistor to the internal trimmed 12.23k resistor, times the internal bandgap reference, (See Datasheet)", 4 SW (power) "Drain of the 150V Internal DMOS Power Switch. Minimize trace area at this pin to reduce EMI and voltage spikes.", 5 VIN (power) "Input Supply. The VIN pin supplies current to internal circuitry and serves as a reference voltage for the feedback circuitry connected to the RFB pin. Locally bypass this pin to ground with a capacitor."

## LT8300IS5#TRPBF
designator U?
Micropower Isolated Flyback Converter with 150 V / 260 mA Switch, 5-pin SOT23 (S5-5), -40 to 125 degC, Pb-Free, Tape and Reel; Manufacturer: Linear Technology; PartNumber: LT8300IS5#TRPBF; Number of Outputs: 1; PackageVersion: Jun-10; PackageReference: S5-5; PackageDescription: 5-Pin Plastic TSOT-23, Body 1.63 x 2.90 mm, Pitch 0.95 mm; Supplier 1: Digi-Key; Supplier Part Number 1: LT8300IS5#TRPBF-ND; Supplier 2: Newark; Supplier Part Number 2: 44W6868; Packing: Tape and Reel; RoHS: TRUE; Mounting Technology: Surface Mount; Code_JEDEC: MO-193; ComponentLink1Description: Manufacturer URL; ComponentLink1URL: http://www.linear.com/; ComponentLink2Description: Datasheet; ComponentLink2URL: http://cds.linear.com/docs/en/datasheet/8300f.pdf; ComponentLink3Description: Package Specification; ComponentLink3URL: http://cds.linear.com/docs/en/packaging/SOT_5_05-08-1635.pdf
footprint LT-S5-5-TSOT-23_N (SOT23, 5-Leads, Body 2.90x1.63mm, Pitch 0.95mm, IPC Medium Density)
footprint LT-S5-5-TSOT-23_L (SOT23, 5-Leads, Body 2.90x1.63mm, Pitch 0.95mm, IPC High Density)
footprint LT-S5-5-TSOT-23_M (SOT23, 5-Leads, Body 2.90x1.63mm, Pitch 0.95mm, IPC Low Density)
pins: 1 EN/UVLO (in) "Enable/Undervoltage Lockout. The EN/UVLO pin is used to enable the LT8300. Pull the pin below 0.3V to shut down the LT8300. This pin has an accurate 1.223V threshold and can be used to program a VIN undervoltage lockout (See Datasheet)", 2 GND (power) "Ground. Tie this pin directly to local ground plane.", 3 RFB (in) "Input Pin for External Feedback Resistor. Connect a resistor from this pin to the transformer primary SW pin. The ratio of the RFB resistor to the internal trimmed 12.23k resistor, times the internal bandgap reference, (See Datasheet)", 4 SW (power) "Drain of the 150V Internal DMOS Power Switch. Minimize trace area at this pin to reduce EMI and voltage spikes.", 5 VIN (power) "Input Supply. The VIN pin supplies current to internal circuitry and serves as a reference voltage for the feedback circuitry connected to the RFB pin. Locally bypass this pin to ground with a capacitor."

## LT8300MPS5#PBF
designator U?
Micropower Isolated Flyback Converter with 150 V / 260 mA Switch, 5-pin SOT23 (S5-5), -55 to 150 degC, Pb-Free; Manufacturer: Linear Technology; PartNumber: LT8300MPS5#PBF; Number of Outputs: 1; PackageVersion: Jun-10; PackageReference: S5-5; PackageDescription: 5-Pin Plastic TSOT-23, Body 1.63 x 2.90 mm, Pitch 0.95 mm; RoHS: TRUE; Mounting Technology: Surface Mount; Code_JEDEC: MO-193; ComponentLink1Description: Manufacturer URL; ComponentLink1URL: http://www.linear.com/; ComponentLink2Description: Datasheet; ComponentLink2URL: http://cds.linear.com/docs/en/datasheet/8300f.pdf; ComponentLink3Description: Package Specification; ComponentLink3URL: http://cds.linear.com/docs/en/packaging/SOT_5_05-08-1635.pdf
footprint LT-S5-5-TSOT-23_N (SOT23, 5-Leads, Body 2.90x1.63mm, Pitch 0.95mm, IPC Medium Density)
footprint LT-S5-5-TSOT-23_L (SOT23, 5-Leads, Body 2.90x1.63mm, Pitch 0.95mm, IPC High Density)
footprint LT-S5-5-TSOT-23_M (SOT23, 5-Leads, Body 2.90x1.63mm, Pitch 0.95mm, IPC Low Density)
pins: 1 EN/UVLO (in) "Enable/Undervoltage Lockout. The EN/UVLO pin is used to enable the LT8300. Pull the pin below 0.3V to shut down the LT8300. This pin has an accurate 1.223V threshold and can be used to program a VIN undervoltage lockout (See Datasheet)", 2 GND (power) "Ground. Tie this pin directly to local ground plane.", 3 RFB (in) "Input Pin for External Feedback Resistor. Connect a resistor from this pin to the transformer primary SW pin. The ratio of the RFB resistor to the internal trimmed 12.23k resistor, times the internal bandgap reference, (See Datasheet)", 4 SW (power) "Drain of the 150V Internal DMOS Power Switch. Minimize trace area at this pin to reduce EMI and voltage spikes.", 5 VIN (power) "Input Supply. The VIN pin supplies current to internal circuitry and serves as a reference voltage for the feedback circuitry connected to the RFB pin. Locally bypass this pin to ground with a capacitor."

## LT8300MPS5#TRMPBF
designator U?
Micropower Isolated Flyback Converter with 150 V / 260 mA Switch, 5-pin SOT23 (S5-5), -55 to 150 degC, Pb-Free, Mini Tape and Reel; Manufacturer: Linear Technology; PartNumber: LT8300MPS5#TRMPBF; Number of Outputs: 1; PackageVersion: Jun-10; PackageReference: S5-5; PackageDescription: 5-Pin Plastic TSOT-23, Body 1.63 x 2.90 mm, Pitch 0.95 mm; Supplier 1: Digi-Key; Supplier Part Number 1: LT8300MPS5#TRMPBFTR-ND; Supplier 2: Digi-Key; Supplier Part Number 2: LT8300MPS5#TRMPBFCT-ND; Supplier 3: Digi-Key; Supplier Part Number 3: LT8300MPS5#TRMPBFDKR-ND; Supplier 4: Newark; Supplier Part Number 4: 44W6869; Packing: Mini Tape and Reel; RoHS: TRUE; Mounting Technology: Surface Mount; Code_JEDEC: MO-193; ComponentLink1Description: Manufacturer URL; ComponentLink1URL: http://www.linear.com/; ComponentLink2Description: Datasheet; ComponentLink2URL: http://cds.linear.com/docs/en/datasheet/8300f.pdf; ComponentLink3Description: Package Specification; ComponentLink3URL: http://cds.linear.com/docs/en/packaging/SOT_5_05-08-1635.pdf
footprint LT-S5-5-TSOT-23_N (SOT23, 5-Leads, Body 2.90x1.63mm, Pitch 0.95mm, IPC Medium Density)
footprint LT-S5-5-TSOT-23_L (SOT23, 5-Leads, Body 2.90x1.63mm, Pitch 0.95mm, IPC High Density)
footprint LT-S5-5-TSOT-23_M (SOT23, 5-Leads, Body 2.90x1.63mm, Pitch 0.95mm, IPC Low Density)
pins: 1 EN/UVLO (in) "Enable/Undervoltage Lockout. The EN/UVLO pin is used to enable the LT8300. Pull the pin below 0.3V to shut down the LT8300. This pin has an accurate 1.223V threshold and can be used to program a VIN undervoltage lockout (See Datasheet)", 2 GND (power) "Ground. Tie this pin directly to local ground plane.", 3 RFB (in) "Input Pin for External Feedback Resistor. Connect a resistor from this pin to the transformer primary SW pin. The ratio of the RFB resistor to the internal trimmed 12.23k resistor, times the internal bandgap reference, (See Datasheet)", 4 SW (power) "Drain of the 150V Internal DMOS Power Switch. Minimize trace area at this pin to reduce EMI and voltage spikes.", 5 VIN (power) "Input Supply. The VIN pin supplies current to internal circuitry and serves as a reference voltage for the feedback circuitry connected to the RFB pin. Locally bypass this pin to ground with a capacitor."

## LT8300MPS5#TRPBF
designator U?
Micropower Isolated Flyback Converter with 150 V / 260 mA Switch, 5-pin SOT23 (S5-5), -55 to 150 degC, Pb-Free, Tape and Reel; Manufacturer: Linear Technology; PartNumber: LT8300MPS5#TRPBF; Number of Outputs: 1; PackageVersion: Jun-10; PackageReference: S5-5; PackageDescription: 5-Pin Plastic TSOT-23, Body 1.63 x 2.90 mm, Pitch 0.95 mm; Supplier 1: Digi-Key; Supplier Part Number 1: LT8300MPS5#TRPBF-ND; Supplier 2: Newark; Supplier Part Number 2: 44W6870; Packing: Tape and Reel; RoHS: TRUE; Mounting Technology: Surface Mount; Code_JEDEC: MO-193; ComponentLink1Description: Manufacturer URL; ComponentLink1URL: http://www.linear.com/; ComponentLink2Description: Datasheet; ComponentLink2URL: http://cds.linear.com/docs/en/datasheet/8300f.pdf; ComponentLink3Description: Package Specification; ComponentLink3URL: http://cds.linear.com/docs/en/packaging/SOT_5_05-08-1635.pdf
footprint LT-S5-5-TSOT-23_N (SOT23, 5-Leads, Body 2.90x1.63mm, Pitch 0.95mm, IPC Medium Density)
footprint LT-S5-5-TSOT-23_L (SOT23, 5-Leads, Body 2.90x1.63mm, Pitch 0.95mm, IPC High Density)
footprint LT-S5-5-TSOT-23_M (SOT23, 5-Leads, Body 2.90x1.63mm, Pitch 0.95mm, IPC Low Density)
pins: 1 EN/UVLO (in) "Enable/Undervoltage Lockout. The EN/UVLO pin is used to enable the LT8300. Pull the pin below 0.3V to shut down the LT8300. This pin has an accurate 1.223V threshold and can be used to program a VIN undervoltage lockout (See Datasheet)", 2 GND (power) "Ground. Tie this pin directly to local ground plane.", 3 RFB (in) "Input Pin for External Feedback Resistor. Connect a resistor from this pin to the transformer primary SW pin. The ratio of the RFB resistor to the internal trimmed 12.23k resistor, times the internal bandgap reference, (See Datasheet)", 4 SW (power) "Drain of the 150V Internal DMOS Power Switch. Minimize trace area at this pin to reduce EMI and voltage spikes.", 5 VIN (power) "Input Supply. The VIN pin supplies current to internal circuitry and serves as a reference voltage for the feedback circuitry connected to the RFB pin. Locally bypass this pin to ground with a capacitor."